# Altium footprint library 1206R.PcbLib: 1 footprints
Each footprint in its own frame and in the unit in brackets; x right, y up, seen from the top. Pads: shape width x height; smd on the part's side, far side on the other; paste and mask are expansions set on the pad; w line width, h text height; cw(c..) or ccw(c..) is an arc to the next point about the centre after c.
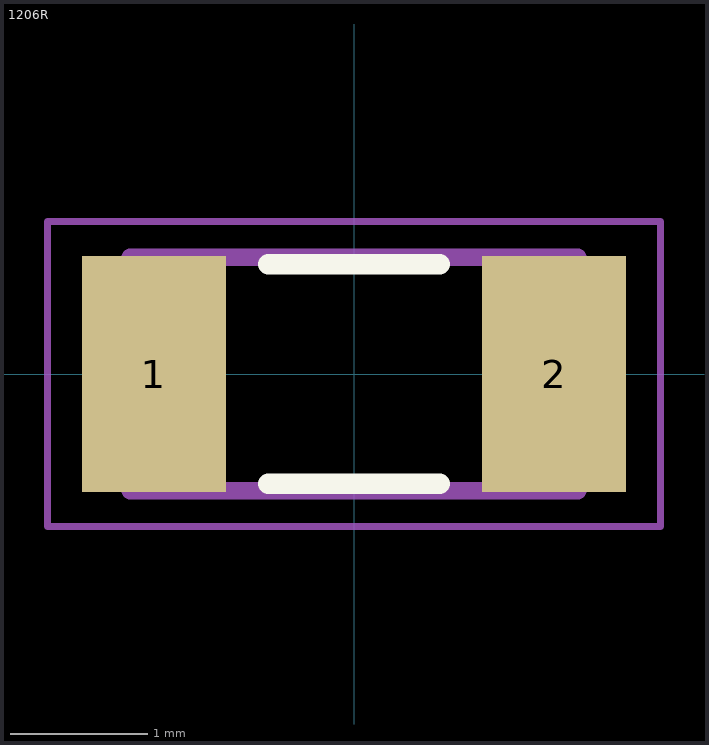
[diagram p0: the footprint, top view; thin cyan lines are the x and y axes]

## 1206R [mm]
pads (2):
  rect 1.05x1.72 smd: 1(-1.46,0) 2(1.46,0)
Top Overlay:
  lines w0.15: -0.625,-0.8 0.625,-0.8 ; -0.625,0.8 0.625,0.8
Mechanical 13:
  lines w0.127: -1.63,-0.85 -1.63,0.85 1.63,0.85 1.63,-0.85 -1.63,-0.85
Mechanical 15:
  lines w0.05: -2.235,-1.112 -2.235,1.112 2.235,1.112 2.235,-1.112 -2.235,-1.112
3D body "CRGCQ1206F39K.STEP": height 0.65, standoff 0, extent -1.55,-0.775 1.55,0.775